# EAGLE library part DS1338Z (library PP_DigitalIC)
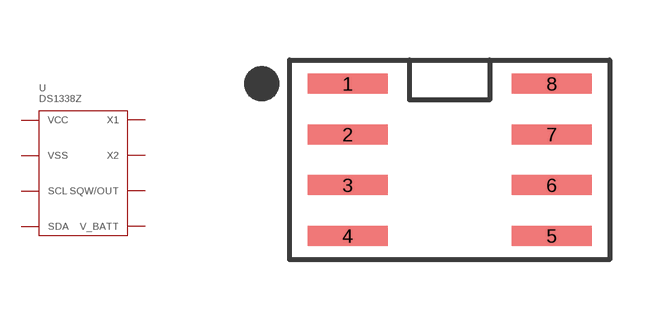
[diagram p43: symbol with the pads of DS1338Z_SOIC-8; footprint DS1338Z_SOIC-8]

Designator prefix U

## DS1338Z  [DS1338Z_SOIC-8]
1  X1
2  X2
3  V_BATT
4  VSS
5  SDA
6  SCL
7  SQW/OUT
8  VCC

## Footprint DS1338Z_SOIC-8 (pad centres in mm)
smd 2 x 0.5: 1 -2.55,1.905; 2 -2.55,0.635; 3 -2.55,-0.635; 4 -2.55,-1.905; 5 2.55,-1.905; 6 2.55,-0.635; 7 2.55,0.635; 8 2.55,1.905